# EAGLE library part ERM8-020-XX.X-X-DV (library con-samtec-er8)
ERM8 Series - Male
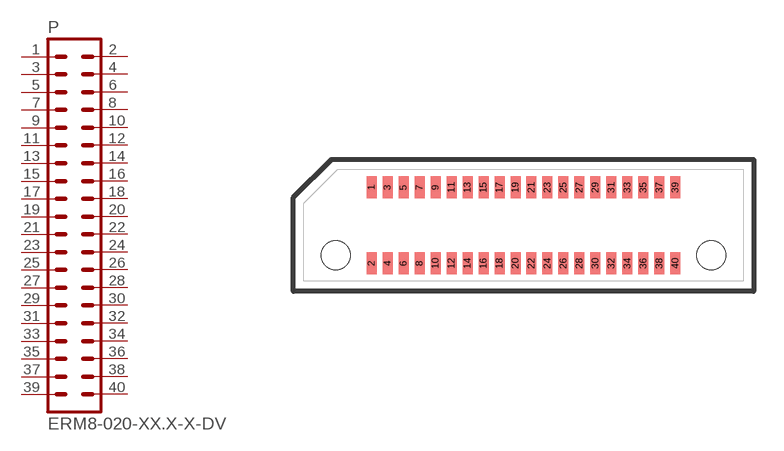
[diagram p7: symbol with the pads of ERM8-020-XX.X-X-DV; footprint ERM8-020-XX.X-X-DV]

Designator prefix P

## ERM8-020-XX.X-X-DV  [ERM8-020-XX.X-X-DV]
1  1  pas
2  2  pas
3  3  pas
4  4  pas
5  5  pas
6  6  pas
7  7  pas
8  8  pas
9  9  pas
10  10  pas
11  11  pas
12  12  pas
13  13  pas
14  14  pas
15  15  pas
16  16  pas
17  17  pas
18  18  pas
19  19  pas
20  20  pas
21  21  pas
22  22  pas
23  23  pas
24  24  pas
25  25  pas
26  26  pas
27  27  pas
28  28  pas
29  29  pas
30  30  pas
31  31  pas
32  32  pas
33  33  pas
34  34  pas
35  35  pas
36  36  pas
37  37  pas
38  38  pas
39  39  pas
40  40  pas

## Footprint ERM8-020-XX.X-X-DV (pad centres in mm)
0.8mm Edge Rate Terminal Assembly MALE, Double Vertical Row, 20 Position
smd 0.5 x 1.1: 1 -7.6,1.9; 2 -7.6,-1.9; 3 -6.8,1.9; 4 -6.8,-1.9; 5 -6,1.9; 6 -6,-1.9; 7 -5.2,1.9; 8 -5.2,-1.9; 9 -4.4,1.9; 10 -4.4,-1.9; 11 -3.6,1.9; 12 -3.6,-1.9; 13 -2.8,1.9; 14 -2.8,-1.9; 15 -2,1.9; 16 -2,-1.9; 17 -1.2,1.9; 18 -1.2,-1.9; 19 -0.4,1.9; 20 -0.4,-1.9; 21 0.4,1.9; 22 0.4,-1.9; 23 1.2,1.9; 24 1.2,-1.9; 25 2,1.9; 26 2,-1.9; 27 2.8,1.9; 28 2.8,-1.9; 29 3.6,1.9; 30 3.6,-1.9; 31 4.4,1.9; 32 4.4,-1.9; 33 5.2,1.9; 34 5.2,-1.9; 35 6,1.9; 36 6,-1.9; 37 6.8,1.9; 38 6.8,-1.9; 39 7.6,1.9; 40 7.6,-1.9
hole 1.45 at -9.4,-1.5
hole 1.45 at 9.4,-1.5